# EAGLE library part M50-3600542R (library mille-feuille)
1.27mm pitch pinheader
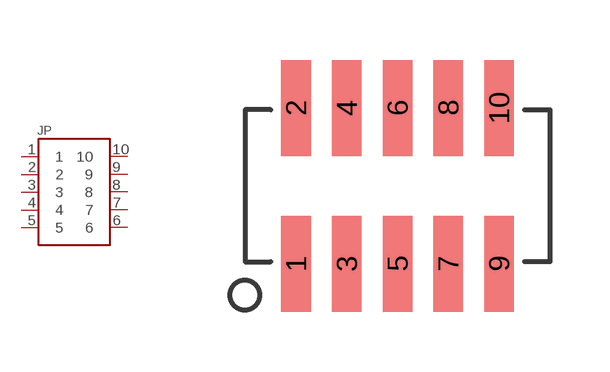
[diagram p46: symbol with the pads of M50-3600542R; footprint M50-3600542R]

Designator prefix JP

## M50-3600542R  [M50-3600542R]
1  1
2  2
3  3
4  4
5  5
6  6
7  7
8  8
9  9
10  10

## Footprint M50-3600542R (pad centres in mm)
smd 0.74 x 2.4: 1 -2.54,-1.95; 2 -2.54,1.95; 3 -1.27,-1.95; 4 -1.27,1.95; 5 0,-1.95; 6 0,1.95; 7 1.27,-1.95; 8 1.27,1.95; 9 2.54,-1.95; 10 2.54,1.95